# Altium footprint library DIP-C  0607.PcbLib: 73 footprints (part 3 of 5)
Each footprint in its own frame and in the unit in brackets; x right, y up, seen from the top. Pads: shape width x height; smd on the part's side, far side on the other; paste and mask are expansions set on the pad; w line width, h text height; cw(c..) or ccw(c..) is an arc to the next point about the centre after c.
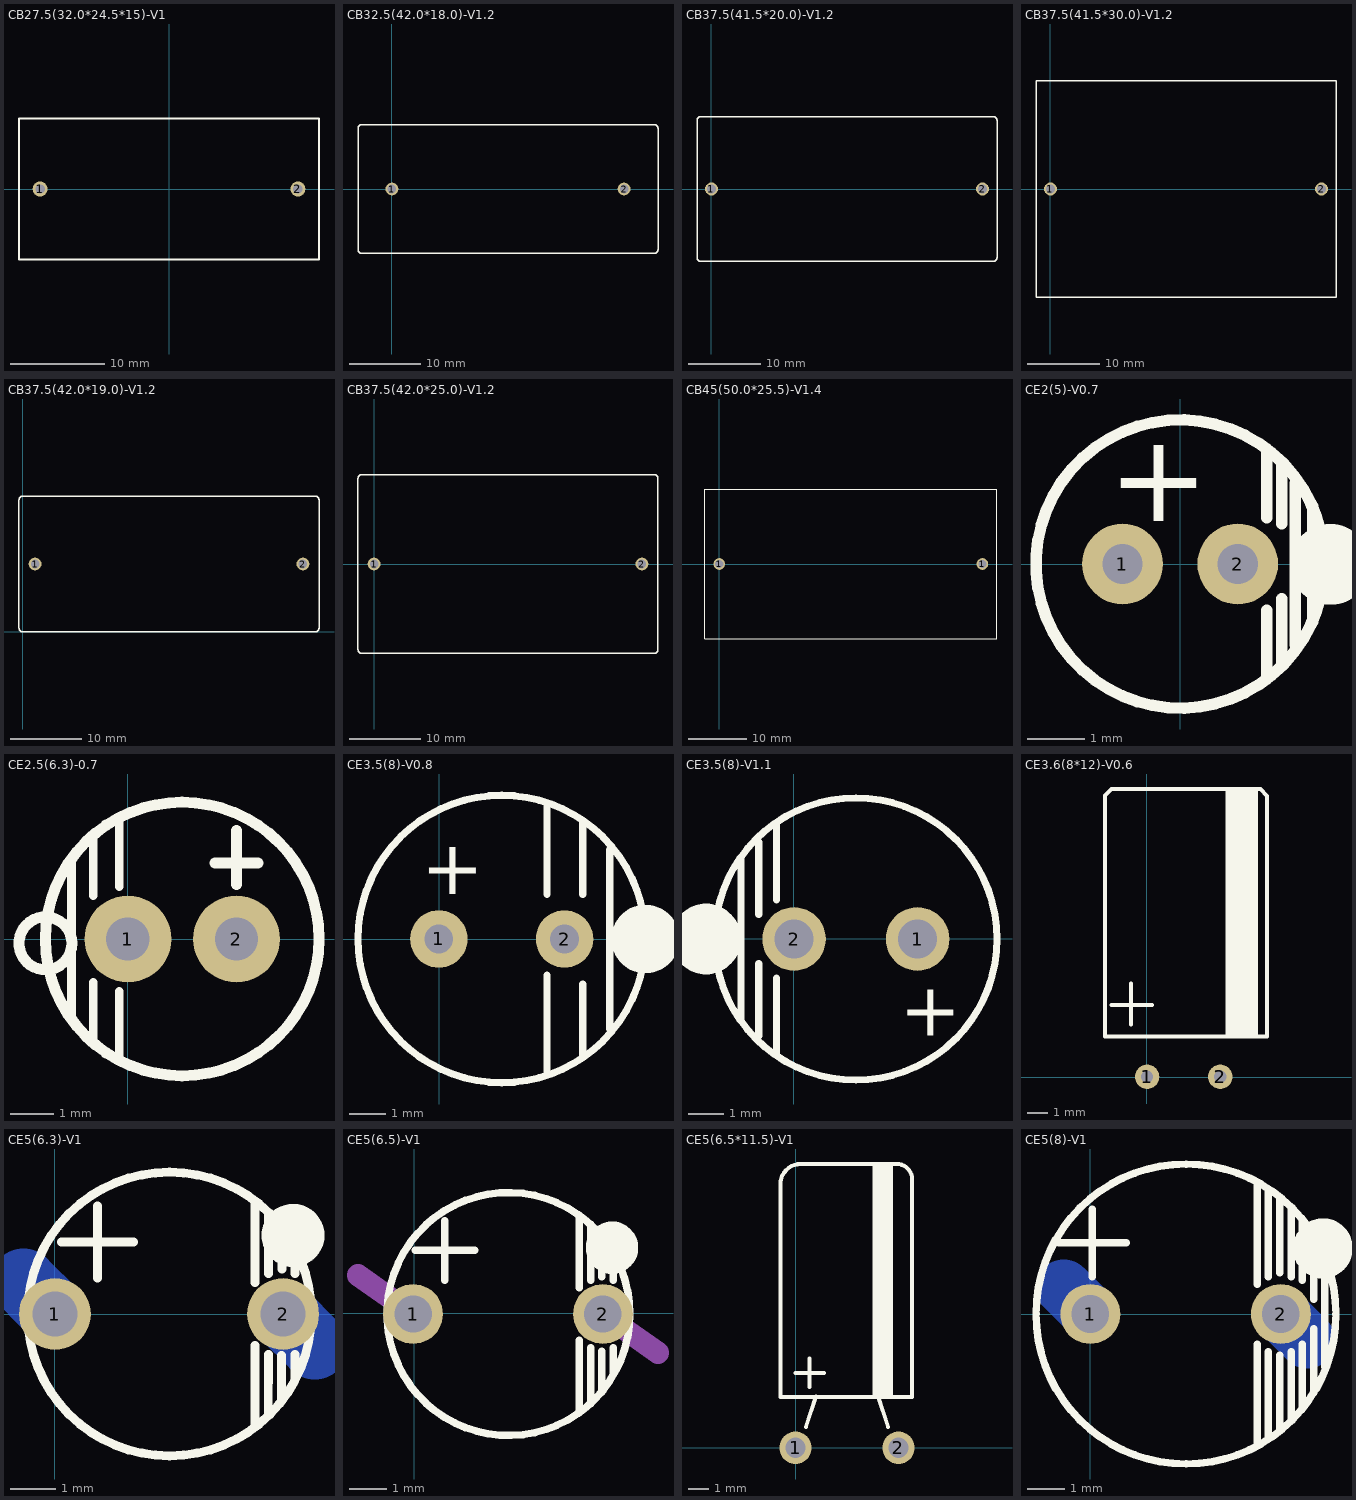
[diagram p2: the footprints below, top view; thin cyan lines are the x and y axes]

## CB27.5(32.0*24.5*15)-V1 [mm]
height 24.5
pads (2):
  round 1.6 hole 1 mask-0.5: 1(-13.75,0) 2(13.75,0)
TopOverlay:
  lines w0.2: -16,-7.5 -16,7.5 16,7.5 16,-7.5 -16,-7.5

## CB32.5(42.0*18.0)-V1.2 [mm]
height 31
pads (2):
  round 1.8 hole 1.2: 1(0,0) 2(32.5,0)
TopOverlay:
  lines w0.2: -4.254,9 36.75,9 cw(c36.75,8.5) 37.25,8.5 37.25,-8.5 cw(c36.75,-8.5) 36.75,-9 -4.25,-9 cw(c-4.25,-8.5) -4.75,-8.5 -4.75,8.5 cw(c-4.25,8.5) -4.25,9

## CB37.5(41.5*20.0)-V1.2 [mm]
height 39.5
pads (2):
  round 1.8 hole 1.2: 1(0,0) 2(37.5,0)
TopOverlay:
  lines w0.2: -2,-9.5 ccw(c-1.5,-9.5) -1.5,-10 39,-10 ccw(c39,-9.5) 39.5,-9.5 39.5,9.5 ccw(c39,9.5) 39,10 -1.5,10 ccw(c-1.5,9.5) -2,9.5 -2,-9.5

## CB37.5(41.5*30.0)-V1.2 [mm]
height 44.4
pads (2):
  round 1.8 hole 1.2: 1(0,0) 2(37.5,0)
TopOverlay:
  lines w0.2: -2,-15 -2,15 39.5,15 39.5,-15 -2,-15

## CB37.5(42.0*19.0)-V1.2 [mm]
height 32.5
pads (2):
  round 1.8 hole 1.2: 1(1.75,9.5) 2(39.25,9.5)
TopOverlay:
  lines w0.2: -0.5,0.5 ccw(c0,0.5) 0,0 41,0 ccw(c41,0.5) 41.5,0.5 41.5,18.5 ccw(c41,18.5) 41,19 0,19 ccw(c0,18.5) -0.5,18.5 -0.5,0.5

## CB37.5(42.0*25.0)-V1.2 [mm]
height 37.5
pads (2):
  round 1.8 hole 1.2: 1(0,0) 2(37.5,0)
TopOverlay:
  lines w0.2: -2.25,-12 ccw(c-1.75,-12) -1.75,-12.5 39.25,-12.5 ccw(c39.25,-12) 39.75,-12 39.75,12 ccw(c39.25,12) 39.25,12.5 -1.75,12.5 ccw(c-1.75,12) -2.25,12 -2.25,-12

## CB45(50.0*25.5)-V1.4 [mm]
height 35
pads (2):
  round 2 hole 1.4: 1(0,0) 1(45,0)
TopOverlay:
  lines w0.2: -2.5,-12.75 47.5,-12.75 47.5,12.75 -2.5,12.75 -2.5,-12.75

## CE2(5)-V0.7 [mm]
pads (2):
  round 1.4 hole 0.7: 1(-1.004,0.006) 2(0.996,0.006)
TopOverlay:
  circle w0.2: c-0.004,0.006 r2.5
  circle w1.2: c2.6,0 r0.1
  lines w0.2: 1.496,-1.994 1.496,-0.794 ; 1.496,0.806 1.496,2.006 ; 1.756,-1.694 1.756,-0.594 ; 1.756,0.706 1.756,1.781 ; 1.996,-1.394 1.996,1.406 ; 2.296,-0.994 2.296,1.006
  text "+" at -1.25,0.75 h1.52

## CE2.5(6.3)-0.7 [mm]
pads (2):
  round 2 hole 1: 1(0,0) 2(2.5,0)
TopOverlay:
  circle w0.254: c-1.9,-0.1 r0.608
  circle w0.254: c1.25,0 r3.15
  lines w0.2: -1.3,-1.8 -1.3,1.8 ; -0.8,-2.4 -0.8,-1 ; -0.8,1 -0.8,2.4 ; -0.2,-2.8 -0.2,-1.2 ; -0.2,1.2 -0.2,2.8
  lines w0.254: 2,1.75 3,1.75 ; 2.5,1.25 2.5,2.5

## CE3.5(8)-V0.8 [mm]
pads (2):
  round 1.6 hole 0.8: 1(-0.006,0.008) 2(3.494,0.008)
TopOverlay:
  circle w1.2: c5.744,0.008 r0.35
  circle w0.2: c1.744,0.008 r4
  lines w0.2: 3,-3.75 3,-1 ; 3,1.25 3,1.5 3,3.75 ; 4,-3.25 4,-1.25 ; 4,1.25 4,3.25 ; 4.75,-2.5 4.75,2.5
  text "+" at -0.5,1.25 h1.52

## CE3.5(8)-V1.1 [mm]
pads (2):
  round 1.8 hole 1.1: 1(3.512,-0.012) 2(0.012,-0.012)
TopOverlay:
  circle w1.5: c-2.488,-0.012 r0.25
  circle w0.2: c1.762,-0.012 r4
  lines w0.2: -1.488,-2.262 -1.488,2.238 ; -0.988,-2.762 -0.988,-0.712 ; -0.988,0.688 -0.988,2.738 ; -0.488,-3.262 -0.488,-1.112 ; -0.488,1.088 -0.488,3.238
  text "+" at 3,-2.75 h1.52

## CE3.6(8*12)-V0.6 [mm]
pads (2):
  round 1.2 hole 0.6: 1(0.006,0.011) 2(3.606,0.011)
TopOverlay:
  rectangle: 3.867,1.986 5.467,14.148
  lines w0.2: -1.928,13.961 -1.741,14.148 5.569,14.148 5.906,13.81 5.906,1.986 -2.068,1.986 -2.068,13.82 -1.746,14.142 ; -1.741,3.536 0.259,3.536 ; -0.787,2.587 -0.787,4.587

## CE5(6.3)-V1 [mm]
height 15
pads (2):
  round 1.6 hole 1: 1(0,0) 2(5.08,0)
BottomLayer:
  lines w1.5: -0.707,0.707 0,0 ; 5.08,0 5.787,-0.707
TopOverlay:
  circle w1: c5.3,1.75 r0.2
  circle w0.2: c2.551,0 r3.16
  lines w0.2: 0.151,1.6 1.751,1.6 ; 0.951,0.8 0.951,2.4 ; 4.45,-2.45 4.451,-0.7 ; 4.45,2.475 4.451,0.7 ; 4.75,-2.225 4.751,-0.9 ; 4.75,2.225 4.751,0.9 ; 5.05,-1.875 5.05,-0.925 ; 5.05,1.9 5.051,1 ; 5.35,-1.44 5.35,-0.9 ; 5.351,0.9 5.35,1.45
BottomSolder:
  lines w1: -0.707,0.707 0,0 ; 5.08,0 5.787,-0.707

## CE5(6.5)-V1 [mm]
pads (2):
  round 1.6 hole 1: 1(-0.025,-0.025) 2(5.055,-0.025)
TopOverlay:
  circle w1: c5.3,1.75 r0.2
  circle w0.2: c2.525,-0.025 r3.25
  lines w0.2: 0.025,1.675 1.625,1.675 ; 0.825,0.875 0.825,2.475 ; 4.425,-2.625 4.425,-0.725 ; 4.425,0.675 4.425,2.575 ; 4.725,-2.425 4.725,-0.925 ; 4.725,0.875 4.725,2.375 ; 5.025,-2.125 5.025,-1.025 ; 5.025,0.975 5.025,2.075 ; 5.325,-1.625 5.325,-0.925 ; 5.325,0.875 5.325,1.575
Mechanical7:
  lines w0.6: -1.5,1.007 -0.025,-0.025 ; 5.055,-0.025 6.529,-1.058

## CE5(6.5*11.5)-V1 [mm]
pads (2):
  round 1.6 hole 1: 1(0,0) 2(5.08,0)
TopOverlay:
  rectangle: 3.8,2.5 4.8,14
  lines w0.2: 0,3.7 1.4,3.7 ; 0.508,1.016 1.016,2.54 ; 0.7,3 0.7,4.4 ; 4.064,2.54 4.572,1.016 ; -0.75,2.5 5.75,2.5 5.75,13.25 ccw(c5,13.25) 5,14 0.25,14 ccw(c0.25,13) -0.75,13 -0.75,2.5

## CE5(8)-V1 [mm]
height 15.5
pads (2):
  round 1.6 hole 1: 1(0,0) 2(5.08,0)
BottomLayer:
  lines w1.5: -0.707,0.707 0,0 ; 5.08,0 5.787,-0.707
TopOverlay:
  circle w0.2: c2.551,0 r4
  circle w1: c6.2,1.75 r0.3
  lines w0.2: -0.849,1.9 0.951,1.9 ; 0.051,1 0.051,2.8 ; 4.451,-3.5 4.451,-0.8 ; 4.451,0.8 4.451,3.5 ; 4.751,-3.3 4.751,-1 ; 4.751,1 4.751,3.3 ; 5.051,-3.1 5.051,-1.1 ; 5.051,1.1 5.051,3.1 ; 5.351,-2.8 5.351,-1 ; 5.351,1 5.351,2.8 ; 5.651,-2.5 5.651,-0.8 ; 5.651,0.9 5.651,2.5 ; 5.951,-2.1 5.951,-0.4 ; 5.951,0.4 5.951,2.1 ; 6.251,-1.4 6.251,1.5
BottomSolder:
  lines w1: -0.707,0.707 0,0 ; 5.08,0 5.787,-0.707